# EAGLE library part 3PDT (library rezzonics)
3PDT 9 pin footswitch SF17020F-0302-21R-L Source: 3PDT.jpg Toggle Switch 3PDT Panel Mount M2032SA1W03 <http://www.digikey.com/product-detail/en/nkk-switches/M2032SA1W03/M2032SA1W03-ND/2105830>
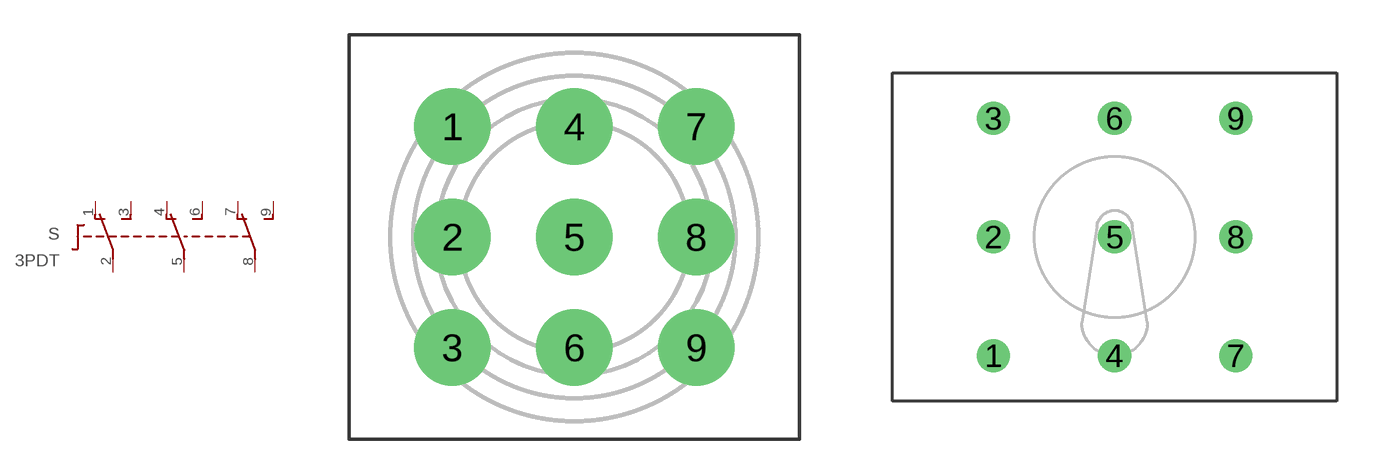
[diagram p25: symbol with the pads of 3PDT; footprints 3PDT, M2032]

Designator prefix S

## 3PDT  [3PDT]
1  O1  pas
2  P1  pas
3  S1  pas
4  O2  pas
5  P2  pas
6  S2  pas
7  O3  pas
8  P3  pas
9  S3  pas

## 3PDTM2032  [M2032]
1  S1  pas
2  P1  pas
3  O1  pas
4  S2  pas
5  P2  pas
6  O2  pas
7  S3  pas
8  P3  pas
9  O3  pas

## Footprint 3PDT (pad centres in mm)
3PDT 9 pin footswitch SF17020F-0302-21R-L Source: 3PDT.jpg
drill 2.3 pad 3.1: 1 -5.3,4.8; 2 -5.3,0; 3 -5.3,-4.8; 4 0,4.8; 5 0,0; 6 0,-4.8; 7 5.3,4.8; 8 5.3,0; 9 5.3,-4.8

## Footprint M2032 (pad centres in mm)
drill 0.8 pad 1.3: 1 -4.8,-4.7; 2 -4.8,0; 3 -4.8,4.7; 4 0,-4.7; 5 0,0; 6 0,4.7; 7 4.8,-4.7; 8 4.8,0; 9 4.8,4.7